# EAGLE library part PHOENIX-COMBICON-MCV-6POS (library escon-50-5-mobo)
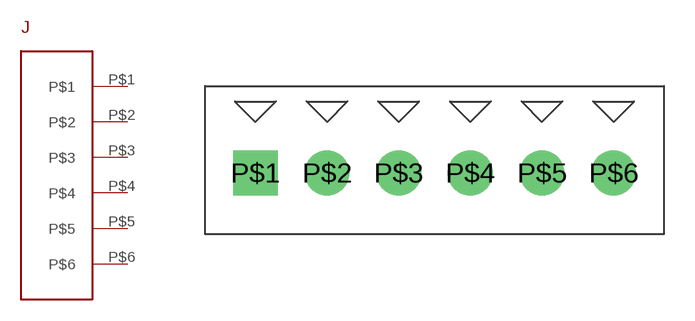
[diagram p3: symbol with the pads of PHOENIX-COMBICON-MCV-6POS; footprint PHOENIX-COMBICON-MCV-6POS]

Designator prefix J

## PHOENIX-COMBICON-MCV-6POS  [PHOENIX-COMBICON-MCV-6POS]
P$1  P$1
P$2  P$2
P$3  P$3
P$4  P$4
P$5  P$5
P$6  P$6

## Footprint PHOENIX-COMBICON-MCV-6POS (pad centres in mm)
drill 1.2 pad 2.184 square: P$1 0,0
drill 1.2 pad 2.184: P$2 3.5,0; P$3 7,0; P$4 10.5,0; P$5 14,0; P$6 17.5,0